# Altium schematic symbol library Schlib1.SchLib: 3 symbols
Pins are listed as number, name and electrical type; pins without a type are passive.

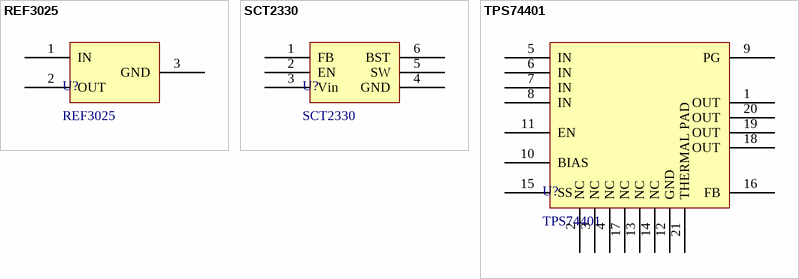
[diagram p0: symbols REF3025 to TPS74401]

## REF3025
designator U?
footprint SOT23-3L (3x1.3x1mm(长宽高))
pins: 1 IN, 2 OUT, 3 GND

## SCT2330
designator U?
pins: 1 FB, 2 EN, 3 Vin, 4 GND, 5 SW, 6 BST

## TPS74401
designator U?
footprint PCBComponent_1
pins: 1 OUT, 2 NC, 3 NC, 4 NC, 5 IN, 6 IN, 7 IN, 8 IN, 9 PG, 10 BIAS, 11 EN, 12 GND, 13 NC, 14 NC, 15 SS, 16 FB, 17 NC, 18 OUT, 19 OUT, 20 OUT, 21 THERMAL PAD